# Altium schematic symbol library ee3102_custom_components.SchLib: 13 symbols
Pins are listed as number, name and electrical type; pins without a type are passive.

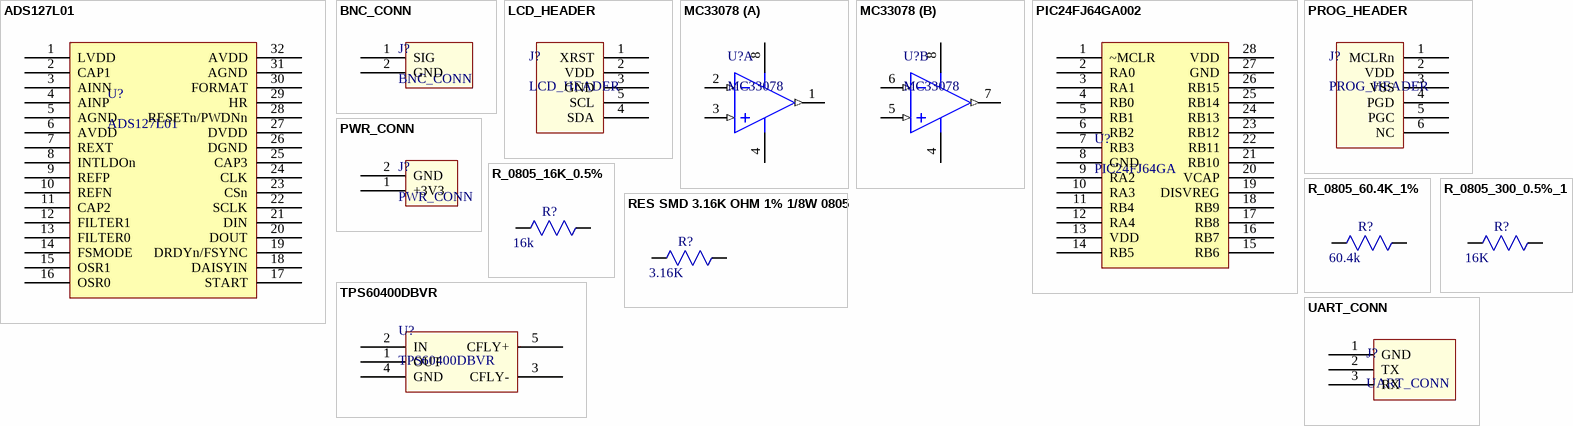
[diagram p0: symbols ADS127L01 to UART_CONN]

## ADS127L01
designator U?
ADC; Supplier 1: Digi-Key; Supplier Part Number 1: 296-44344-6-ND
footprint TSQFP50P700X700X105-32N (TSQFP, 32-Leads, Body 5.00x5.00mm, Pitch 0.50mm, IPC Medium Density)
pins: 1 LVDD, 2 CAP1, 3 AINN, 4 AINP, 5 AGND, 6 AVDD, 7 REXT, 8 INTLDOn, 9 REFP, 10 REFN, 11 CAP2, 12 FILTER1, 13 FILTER0, 14 FSMODE, 15 OSR1, 16 OSR0, 17 START, 18 DAISYIN, 19 DRDYn/FSYNC, 20 DOUT, 21 DIN, 22 SCLK, 23 CSn, 24 CLK, 25 CAP3, 26 DGND, 27 DVDD, 28 RESETn/PWDNn, 29 HR, 30 FORMAT, 31 AGND, 32 AVDD

## BNC_CONN
designator J?
Connector for the noise input signal; Supplier 1: Digi-Key; Supplier Part Number 1: WM5514-ND
footprint BNC_Connector
pins: 1 SIG, 2 GND

## LCD_HEADER
designator J?
footprint LCD Header
pins: 1 XRST, 2 VDD, 3 GND, 4 SDA, 5 SCL

## MC33078
designator U?
footprint 8-SOIC
pins on every part: 4 VCC- (power), 8 VCC+ (power)
part A pins: 1 OUT1 (out), 2 IN1- (in), 3 IN1+ (in)
part B pins: 5 IN2+ (in), 6 IN2- (in), 7 OUT2 (out)

## PIC24FJ64GA002
designator U?, comment PIC24FJ64GA
28 Pin PIC 24; Packaging: SPDIP; Supplier 1: Digi-Key; Supplier Part Number 1: PIC24FJ64GA002-I/SP-ND
pins: 1 ~MCLR, 2 RA0, 3 RA1, 4 RB0, 5 RB1, 6 RB2, 7 RB3, 8 GND, 9 RA2, 10 RA3, 11 RB4, 12 RA4, 13 VDD, 14 RB5, 15 RB6, 16 RB7, 17 RB8, 18 RB9, 19 DISVREG, 20 VCAP, 21 RB10, 22 RB11, 23 RB12, 24 RB13, 25 RB14, 26 RB15, 27 GND, 28 VDD

## PROG_HEADER
designator J?
For Programming the PIC24
footprint PROG_HEADER
pins: 1 MCLRn, 2 VDD, 3 VSS, 4 PGD, 5 PGC, 6 NC

## PWR_CONN
designator J?
footprint PJ-063AH (DC Jack)
pins: 1 +3V3, 2 GND

## R_0805_16K_0.5%
designator R?, comment value 16k  (hidden comment: RES SMD 16K OHM 0.5% 1/10W 0805)
Supplier 1: Digi-Key; Supplier Part Number 1: RR12P300DDKR-ND
footprint 0805_Resistor (0805 Resistor)
pins: 1, 2

## R_0805_60.4K_1%
designator R?, comment value 60.4k  (hidden comment: RES SMD 60.4K OHM 0.1% 1/8W 0805)
Supplier 1: Digi-Key; Supplier Part Number 1: P60.4KDACT-ND
footprint 0805_Resistor (0805 Resistor)
pins: 1, 2

## R_0805_300_0.5%_1
designator R?, comment value 16K  (hidden comment: RES SMD 300 OHM 0.5% 1/10W 0805)
Supplier 1: Digi-Key; Supplier Part Number 1: RR12P16.0KDDKR-ND
footprint 0805_Resistor (0805 Resistor)
pins: 1, 2

## RES SMD 3.16K OHM 1% 1/8W 0805
designator R?  value 3.16K  (hidden comment: RES SMD 3.16K OHM 1% 1/8W 0805)
Supplier 1: Digi-Key; Supplier Part Number 1: P3.16KCDKR-ND
footprint 0805_Resistor (0805 Resistor)
pins: 1, 2

## TPS60400DBVR
designator U?
IC REG SWTCHD CAP INV 60MA SOT23; Supplier 1: Digi-Key; Supplier Part Number 1: 296-27004-6-ND
footprint TPS60400DBVR (SOT23, 5-Leads, Body 2.90x2.80mm, Pitch 0.95mm, IPC Medium Density)
pins: 1 OUT, 2 IN, 3 CFLY-, 4 GND, 5 CFLY+

## UART_CONN
designator J?
Could be either a header or a USB Connector
footprint UART_HEADER
pins: 1 GND, 2 TX, 3 RX